# Altium schematic symbol library BSS138PW_115.SchLib: 1 symbol
Pins are listed as number, name and electrical type; pins without a type are passive.

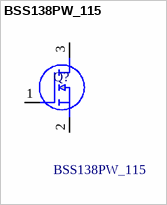
[diagram p0: symbol BSS138PW_115]

## BSS138PW_115
designator Q?
BSS138PW,115 N-Channel MOSFET, 320 mA, 60 V, 3-Pin SOT-323 Nexperia; Geometry.Height: 1.1mm; Mouser Part Number: 771-BSS138PW115; Mouser Price/Stock: https://www.mouser.co.uk/ProductDetail/Nexperia/BSS138PW115?qs=A1cBxND5mHKdv5mYHLzmBw%3D%3D; Manufacturer_Name: Nexperia; Manufacturer_Part_Number: BSS138PW,115; Datasheet Link: https://assets.nexperia.com/documents/data-sheet/BSS138PW.pdf
footprint SOT65P210X110-3N
pins: 1 G, 2 S, 3 D